# EAGLE library part TPA301 (library pimoroni-ics)
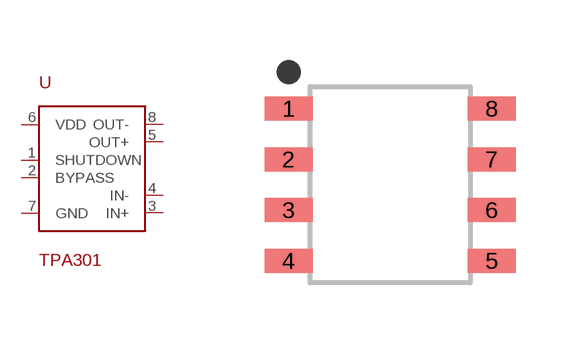
[diagram p66: symbol with the pads of SOIC8-150MIL; footprint SOIC8-150MIL]

Designator prefix -

## TPA301  [SOIC8-150MIL]
1  SHUTDOWN
2  BYPASS
3  IN+
4  IN-
5  OUT+
6  VDD
7  GND
8  OUT-

## Footprint SOIC8-150MIL (pad centres in mm)
smd 1.2 x 0.6: 1 -2.54,1.905; 2 -2.54,0.635; 3 -2.54,-0.635; 4 -2.54,-1.905; 5 2.54,-1.905; 6 2.54,-0.635; 7 2.54,0.635; 8 2.54,1.905